# Altium schematic symbol library WAKEFIELD THERMAL 678-39-C element for BOM.SchLib: 1 symbol
Pins are listed as number, name and electrical type; pins without a type are passive.

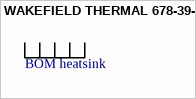
[diagram p0: symbol WAKEFIELD THERMAL 678-39-C]

## WAKEFIELD THERMAL 678-39-C
designator *  (value not drawn)
HEAT SINK, ALUMINIUM, TO-PACKAGE, SMD
text: BOM heatsink